# EAGLE library part 1825002-6 (library Switches)
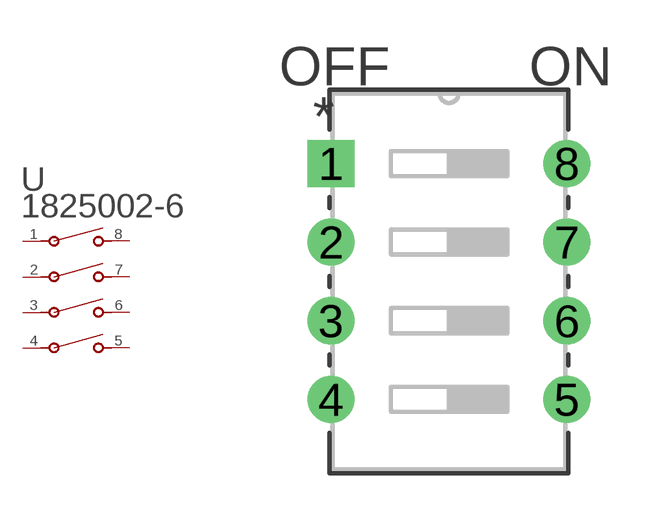
[diagram p28: symbol with the pads of SWDIP8_300X138P100; footprint SWDIP8_300X138P100]

Designator prefix U

## 1825002-6 (BUILT_BY: EMA_UL_Team; CATEGORY: DIP & SIP Switches; COPYRIGHT: Copyright (C) 2016 Accelerated Designs. All rights reserved; DESCRIPTION: ADF04T04=DIP SWT,FLUSH,THRU/HL; MANUFACTURER_PART_NUMBER: 1825002-6; PART_STATUS: active; SERIES: Alcoswitch DIP,Alcoswitch DIP ADF; VENDOR: TE Connectivity)  [SWDIP8_300X138P100]
1  1  pas
2  2  pas
3  3  pas
4  4  pas
5  5  pas
6  6  pas
7  7  pas
8  8  pas

## Footprint SWDIP8_300X138P100 (pad centres in mm)
drill 0.813 pad 1.524 square: 1 -7.62,7.62
drill 0.813 pad 1.524: 2 -7.62,5.08; 3 -7.62,2.54; 4 -7.62,0; 5 0,0; 6 0,2.54; 7 0,5.08; 8 0,7.62